# Altium schematic symbol library 2015-10-09_12-53-28.SchLib: 9 symbols
Pins are listed as number, name and electrical type; pins without a type are passive.

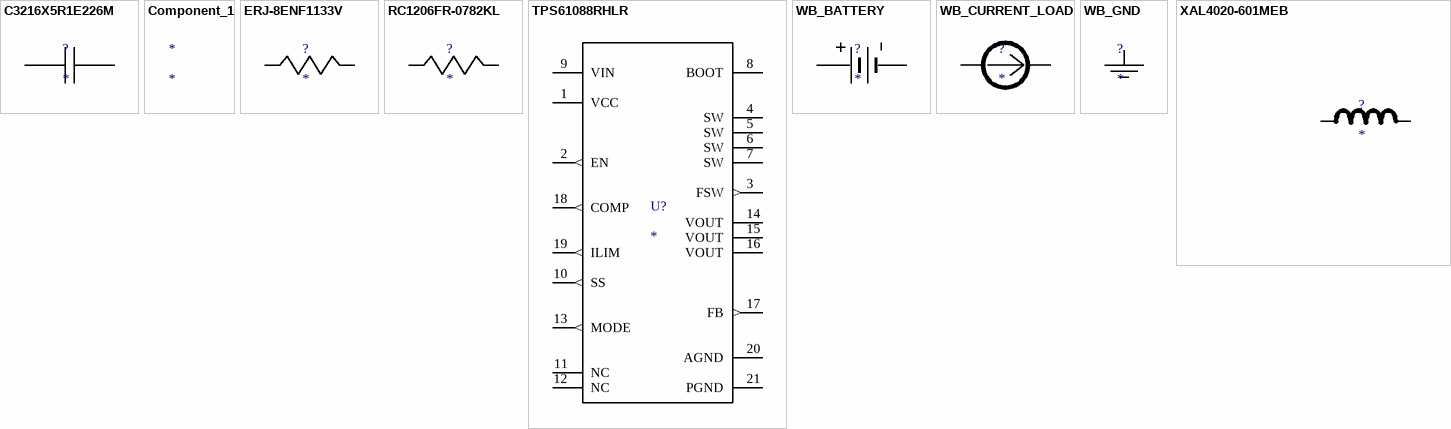
[diagram p0: symbols C3216X5R1E226M to XAL4020-601MEB]

## C3216X5R1E226M
designator ?
Imported; Manufacturer_Part_Number: C3216X5R1E226M; Vendor: TDK; Datasheet URL: http://www.tdk.co.jp/tefe02/e4038%5Fc.pdf; Manufacturer_Name: TDK; RefDes: RefDes; Type: DEV; Value: Value
footprint 1206
pins: 1, 2

## Component_1
designator *

## ERJ-8ENF1133V
designator ?
Imported; Manufacturer_Part_Number: ERJ-8ENF1133V; Vendor: Panasonic; Manufacturer_Name: Panasonic; RefDes: RefDes; Type: DEV; Value: Value
footprint 1206
pins: 1, 2

## RC1206FR-0782KL
designator ?
Imported; Manufacturer_Part_Number: RC1206FR-0782KL; Vendor: Yageo America; Manufacturer_Name: Yageo America; RefDes: RefDes; Type: DEV; Value: Value
footprint 1206
pins: 1, 2

## TPS61088RHLR
designator U?
Imported; PartNumber: TPS61088RHLR; Alternate PartNumber: TPS61088RHLT; Manufacturer: Texas Instruments; CompType: IC; PIN_COUNT: 21; Application_BuildNumber: *; PackageReference: RHL0020A; MountType: SMT; RoHS: Y; RefDes: RefDes; Type: DEV; Value: Value; Manufacturer_Part_Number: TPS61088RHLR; Manufacturer_Name: Texas Instruments
footprint RHL0020A
pins: 1 VCC (power), 2 EN (out), 3 FSW (out), 4 SW (power), 5 SW (power), 6 SW (power), 7 SW (power), 8 BOOT (power), 9 VIN (power), 10 SS (out), 11 NC, 12 NC, 13 MODE (out), 14 VOUT, 15 VOUT, 16 VOUT, 17 FB (out), 18 COMP (out), 19 ILIM (out), 20 AGND, 21 PGND

## WB_BATTERY
designator ?
Imported; Manufacturer_Part_Number: WB_BATTERY; PowerPortType: POWER_GROUND; Value: Value; Manufacturer_Name: WB_BATTERY; RefDes: RefDes; Type: TYPE
pins: 1 +, 2 -

## WB_CURRENT_LOAD
designator ?
Imported; Manufacturer_Part_Number: WB_CURRENT_LOAD; PowerPortType: POWER_GROUND; Value: Value; Manufacturer_Name: WB_CURRENT_LOAD; RefDes: RefDes; Type: TYPE
pins: 1 +, 2 -

## WB_GND
designator ?
Imported; Manufacturer_Part_Number: WB_GND; PowerPortType: POWER_GROUND; Value: Value; Manufacturer_Name: WB_GND; RefDes: RefDes; Type: TYPE
pins: 1

## XAL4020-601MEB
designator ?
Imported; Manufacturer_Part_Number: XAL4020-601MEB; Vendor: Coilcraft; Manufacturer_Name: Coilcraft; RefDes: RefDes; Type: DEV; Value: Value
footprint XAL4020
pins: 1, 2